# Altium schematic symbol library ASDMB.Schlib: 1 symbol
Pins are listed as number, name and electrical type; pins without a type are passive.

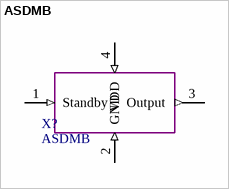
[diagram p0: symbol ASDMB]

## ASDMB
designator X?
pins: 1 Standby (in), 2 GND (in), 3 Output (out), 4 VDD (in)